# Altium schematic symbol library Smart_Drive_SCHLIB.SCHLIB: 25 symbols
Pins are listed as number, name and electrical type; pins without a type are passive.

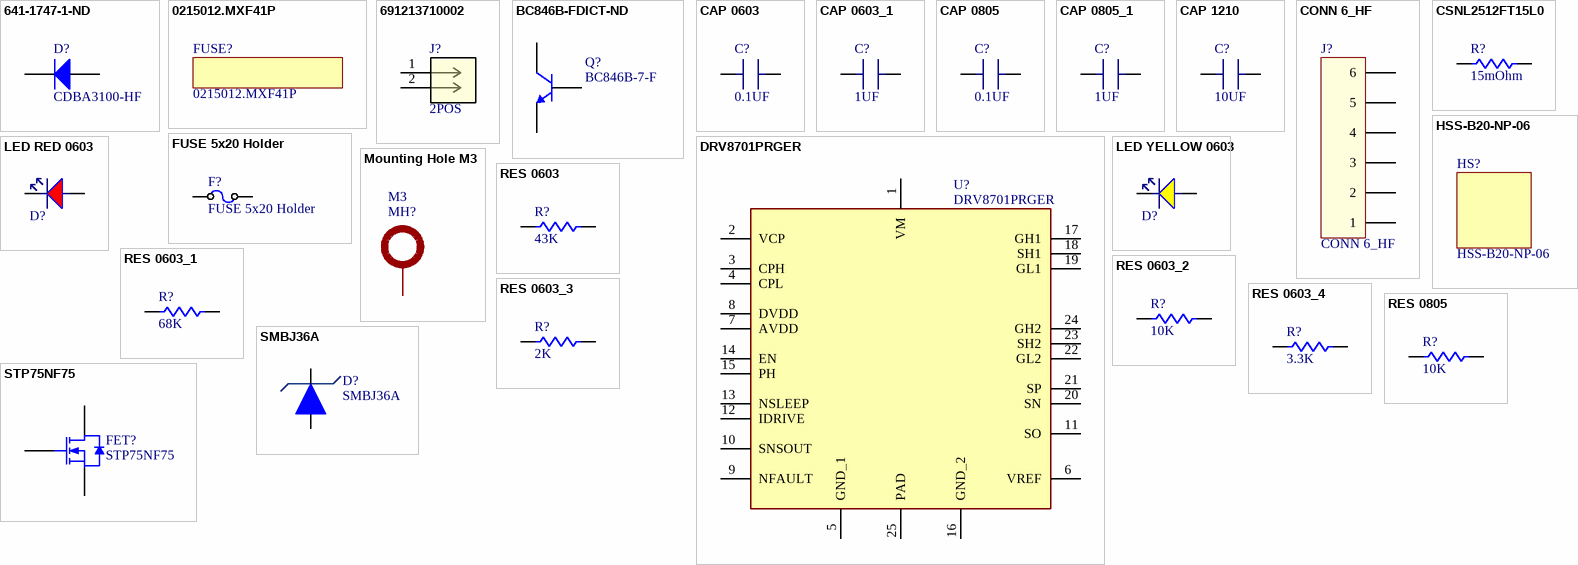
[diagram p0: symbols 641-1747-1-ND to STP75NF75]

## 641-1747-1-ND
designator D?, comment CDBA3100-HF
Diode Schottky 100V 3A (DC) Surface Mount DO-214AC (SMA); Supplier 1: Mouser; Supplier Part Number 1: 750-CDBA3100-HF
footprint DIODE SMA
pins: 1 A, 2 K

## 0215012.MXF41P
designator FUSE?  (mechanical)
Cartridge Fuses FUSE 250V 5x20 PT RAD TL PB-FREE 12A; Supplier 1: Mouser; Supplier Part Number 1: 576-0215012.MXF41P

## 691213710002
designator J?, comment 2POS
TERM BLK 2POS SIDE ENTRY 5MM PCB; Mfr_Name: Wurth Electronics; RefDes: RefDes; Type: Type; Supplier 1: Mouser; Supplier Part Number 1: 710-691213710002
footprint CONN2_710002_WRE - duplicate
pins: 1, 2

## BC846B-FDICT-ND
designator Q?, comment BC846B-7-F
Bipolar (BJT) Transistor NPN 65V 100mA 300MHz 300mW Surface Mount SOT-23-3; Supplier 1: Mouser; Supplier Part Number 1: 621-BC846B-7-F
footprint SOT23_3
pins: 1 B, 2 E, 3 C

## CAP 0603
designator C?, comment 0.1UF
CAP SMD 0603
footprint CAP: 0603
pins: 1 A, 2 B

## CAP 0603_1
designator C?, comment 1UF
CAP SMD 0603
footprint CAP: 0603
pins: 1 A, 2 B

## CAP 0805
designator C?, comment 0.1UF
CAP SMD 0805
footprint CAP: 0805
pins: 1 A, 2 B

## CAP 0805_1
designator C?, comment 1UF
CAP SMD 0805
footprint CAP: 0805
pins: 1 A, 2 B

## CAP 1210
designator C?, comment 10UF
CAP SMD 1210
footprint CAP: 1210
pins: 1 A, 2 B

## CONN 6_HF
designator J?
footprint CON: PLS-6
pins: 1, 2, 3 (power), 4 (power), 5 (power), 6 (power)

## CSNL2512FT15L0
designator R?, comment 15mOhm
Current Sense Resistors - SMD 0.015Ohms 2512 3W 50ppm 1% Metal Plate; Supplier 1: Mouser; Supplier Part Number 1: 708-CSNL2512FT15L0
footprint RES: 2512
pins: 1, 2

## DRV8701PRGER
designator U?
Motor/Motion/Ignition Controllers & Drivers 47-V H-bridge smart gate driver 24-VQFN; Supplier 1: Mouser; Supplier Part Number 1: 595-DRV8701PRGER
footprint VQFN-24
pins: 1 VM, 2 VCP, 3 CPH, 4 CPL, 5 GND_1, 6 VREF, 7 AVDD, 8 DVDD, 9 NFAULT, 10 SNSOUT, 11 SO, 12 IDRIVE, 13 NSLEEP, 14 EN, 15 PH, 16 GND_2, 17 GH1, 18 SH1, 19 GL1, 20 SN, 21 SP, 22 GL2, 23 SH2, 24 GH2, 25 PAD

## FUSE 5x20 Holder
designator F?
FUSE: 5x20 Holder
footprint FUSE: 5x20 Holder
pins: 1, 2

## HSS-B20-NP-06
designator HS?
Heat Sinks 19 x 19 x 9.52mm TO-220 bolt on; Supplier 1: Mouser; Supplier Part Number 1: 490-HSS-B20-NP-06
footprint HSS-B20-NP-06 (Heat Sinks 19 x 19 x 9.52mm TO-220 bolt on)

## LED RED 0603
designator D?, comment RED  (value not drawn)
LED RED CLEAR 0603 SMD
footprint LED: 0603R
pins: 1 C "Cathod", 2 A "Anod"

## LED YELLOW 0603
designator D?, comment YELLOW  (value not drawn)
LED YELLOW CLEAR 0603 SMD
footprint LED: 0603Y
pins: 1 C "Cathod", 2 A "Anod"

## Mounting Hole M3
designator MH?, comment M3  (no BOM)
Mounting Hole M3 Screw
footprint M3 Mounting Hole
pins: 1

## RES 0603
designator R?, comment 43K
RES SMD 0603
footprint RES: 0603
pins: 1, 2

## RES 0603_1
designator R?, comment 68K
RES SMD 0603
footprint RES: 0603
pins: 1, 2

## RES 0603_2
designator R?, comment 10K
RES SMD 0603
footprint RES: 0603
pins: 1, 2

## RES 0603_3
designator R?, comment 2K
RES SMD 0603
footprint RES: 0603
pins: 1, 2

## RES 0603_4
designator R?, comment 3.3K
RES SMD 0603
footprint RES: 0603
pins: 1, 2

## RES 0805
designator R?, comment 10K
RES SMD 0805
footprint RES: 0805
pins: 1, 2

## SMBJ36A
designator D?
ESD Protection Diodes / TVS Diodes 36volts 5uA 10.3 Amps Uni-Dir; Supplier 1: Mouser; Supplier Part Number 1: 652-SMBJ36A
footprint DO-214AA
pins: 1, 2

## STP75NF75
designator FET?
MOSFETs N-Ch 75 Volt 80 Amp; Supplier 1: Mouser; Supplier Part Number 1: 511-STP75NF75
footprint TO220-3 (TO-220 3 LEAD, TO-262, pitch: 2.54mm  10x4.5mm)
pins: 1 G, 2 D, 3 S